# Altium schematic symbol library Power.SchLib: 8 symbols
Pins are listed as number, name and electrical type; pins without a type are passive.

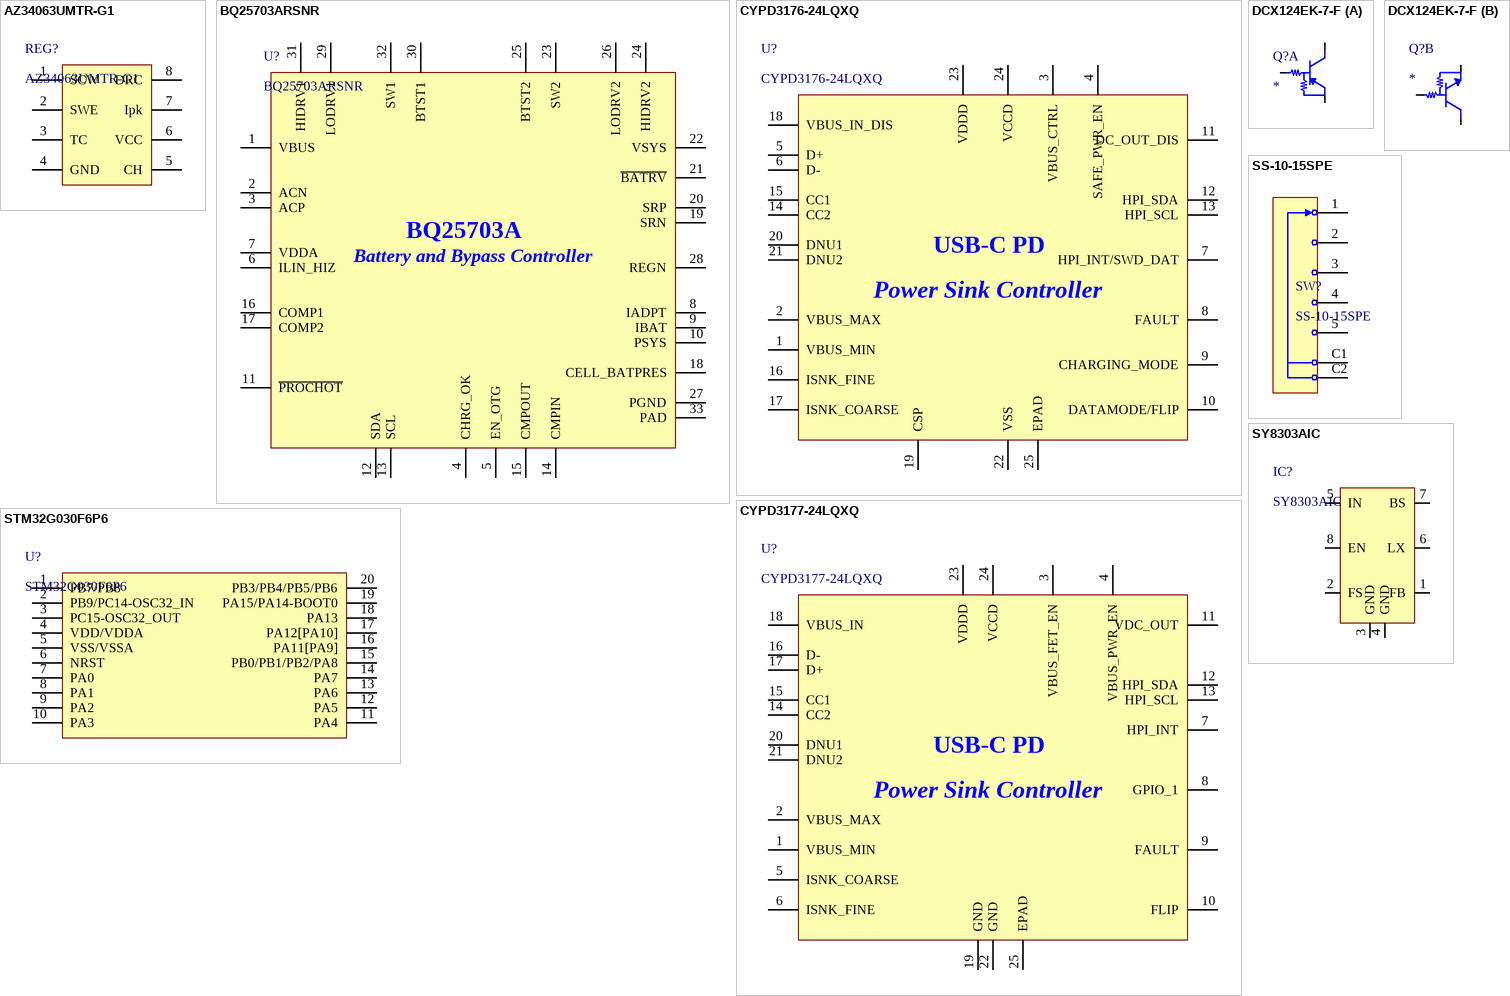
[diagram p0: symbols AZ34063UMTR-G1 to SY8303AIC]

## AZ34063UMTR-G1
designator REG?
USB Interface IC USB Type-C port controller (BCR) CYPD3177; Mfr.: Diodes Incorporated; Distributor_Link: https://www.mouser.tw/ProductDetail/Diodes-Incorporated/AZ34063UMTR-G1?qs=FKu9oBikfSmOGMlC%2Fa3O3g%3D%3D; Mfr. #: AZ34063UMTR-G1; Datasheet: https://www.diodes.com/assets/Datasheets/AZ34063U.pdf; Distributor #: 621-AZ34063UMTR-G1
footprint SOIC-8
pins: 1 SCW, 2 SWE, 3 TC, 4 GND, 5 CH, 6 VCC, 7 Ipk, 8 DRC

## BQ25703ARSNR
designator U?
Battery Management I2C 1-4 cell NVDC Buck-Boost battery charge controller with system power monitor & processor 32-QFN -40 to 85; Mfr.: Texas Instruments; Distributor_Link: https://www.mouser.tw/ProductDetail/Texas-Instruments/BQ25703ARSNR?qs=5aG0NVq1C4wREUY%2F32PenQ%3D%3D; Mfr. #: BQ25703ARSNR; Datasheet: https://www.ti.com/general/docs/suppproductinfo.tsp?distId=26&gotoUrl=https://www.ti.com/lit/gpn/bq25703a; Distributor #: 595-BQ25703ARSNR
footprint WQFN-32
pins: 1 VBUS, 2 ACN, 3 ACP, 4 CHRG_OK, 5 EN_OTG, 6 ILIN_HIZ, 7 VDDA, 8 IADPT, 9 IBAT, 10 PSYS, 11 ~{PROCHOT}, 12 SDA, 13 SCL, 14 CMPIN, 15 CMPOUT, 16 COMP1, 17 COMP2, 18 CELL_BATPRES, 19 SRN, 20 SRP, 21 ~{BATRV}, 22 VSYS, 23 SW2, 24 HIDRV2, 25 BTST2, 26 LODRV2, 27 PGND, 28 REGN, 29 LODRV1, 30 BTST1, 31 HIDRV1, 32 SW1, 33 PAD
text: BQ25703A; Battery and Bypass Controller

## CYPD3176-24LQXQ
designator U?
USB Interface IC USB Type-C port controller (BCR-PLUS) CYPD3176; Mfr. #: CYPD3176-24LQXQT; Mfr.: Infineon Technologies; Distributor_Link: https://www.mouser.tw/ProductDetail/Infineon-Technologies/CYPD3176-24LQXQT?qs=A6eO%252BMLsxmQEa4cjIEO1Eg%3D%3D; Datasheet: https://www.mouser.tw/datasheet/2/196/Infineon_CYPD3176_24LQXQ_DataSheet_v01_00_EN-3161635.pdf; Distributor #: 727-CYPD3176-24LQXQT
footprint QFN-24
pins: 1 VBUS_MIN, 2 VBUS_MAX, 3 VBUS_CTRL, 4 SAFE_PWR_EN, 5 D+, 6 D-, 7 HPI_INT/SWD_DAT, 8 FAULT, 9 CHARGING_MODE, 10 DATAMODE/FLIP, 11 DC_OUT_DIS, 12 HPI_SDA, 13 HPI_SCL, 14 CC2, 15 CC1, 16 ISNK_FINE, 17 ISNK_COARSE, 18 VBUS_IN_DIS, 19 CSP, 20 DNU1, 21 DNU2, 22 VSS, 23 VDDD, 24 VCCD, 25 EPAD
text: USB-C PD; Power Sink Controller

## CYPD3177-24LQXQ
designator U?
USB Interface IC USB Type-C port controller (BCR) CYPD3177; Mfr. #: CYPD3177-24LQXQT; Mfr.: Infineon Technologies; Distributor_Link: https://www.mouser.tw/ProductDetail/727-CYPD3177-24LQXQT; Datasheet: https://www.mouser.tw/datasheet/2/196/Infineon_EZ_PD_BCR_Datasheet_USB_Type_C_Port_Contr-3161917.pdf; Distributor #: 727-CYPD3177-24LQXQT
footprint QFN-24
pins: 1 VBUS_MIN, 2 VBUS_MAX, 3 VBUS_FET_EN, 4 VBUS_PWR_EN, 5 ISNK_COARSE, 6 ISNK_FINE, 7 HPI_INT, 8 GPIO_1, 9 FAULT, 10 FLIP, 11 VDC_OUT, 12 HPI_SDA, 13 HPI_SCL, 14 CC2, 15 CC1, 16 D-, 17 D+, 18 VBUS_IN, 19 GND, 20 DNU1, 21 DNU2, 22 GND, 23 VDDD, 24 VCCD, 25 EPAD
text: USB-C PD; Power Sink Controller

## DCX124EK-7-F
designator Q?
Bipolar Transistors - Pre-Biased PREBIASED TRANSISTOR SOT-26 300MW; Mfr. #: DCX124EK-7-F; Mfr.: Diodes Incorporated; Distributor_Link: https://www.mouser.tw/ProductDetail/Diodes-Incorporated/DCX124EK-7-F?qs=oVWkMaT70e5dmImuN6ueZA%3D%3D; Datasheet: https://www.diodes.com/assets/Datasheets/ds30350.pdf; Distributor #: 621-DCX124EK-7-F
footprint SOT-26
part A pins: 1 E1, 2 B1, 4 C1
part B pins: 3 C2, 5 B2, 6 E2

## SS-10-15SPE
designator SW?
SW-SP5T
pins: 1, 2, 3, 4, 5, C1, C2

## STM32G030F6P6
designator U?
ARM Microcontrollers - MCU Mainstream Value-Line Arm Cortex-M0+ MCU 32 Kbytes of Flash 8 Kbytes RAM, 64 MHz; Mfr.: STMicroelectronics; Distributor_Link: https://www.mouser.tw/ProductDetail/STMicroelectronics/STM32G030F6P6?qs=uwxL4vQweFOQRcVHghCbHA%3D%3D; Mfr. #: STM32G030F6P6; Datasheet: https://www.mouser.tw/datasheet/2/389/stm32g030c6-1826662.pdf; Distributor #: 511-STM32G030F6P6
footprint TSSOP-20
pins: 1 PB7/PB8, 2 PB9/PC14-OSC32_IN, 3 PC15-OSC32_OUT, 4 VDD/VDDA, 5 VSS/VSSA, 6 NRST, 7 PA0, 8 PA1, 9 PA2, 10 PA3, 11 PA4, 12 PA5, 13 PA6, 14 PA7, 15 PB0/PB1/PB2/PA8, 16 PA11[PA9], 17 PA12[PA10], 18 PA13, 19 PA15/PA14-BOOT0, 20 PB3/PB4/PB5/PB6

## SY8303AIC
designator IC?
Step-down type TSOT-23-8 DC-DC Converters ROHS; Mfr.: Silergy Corp; Distributor_Link: https://www.mouser.tw/ProductDetail/727-CYPD3177-24LQXQT; Mfr. #: SY8303AIC; Datasheet: https://datasheet.lcsc.com/lcsc/1811151653_Silergy-Corp-SY8303AIC_C97054.pdf; Distributor #: C97054
footprint TSOT-23-8
pins: 1 FB, 2 FS, 3 GND, 4 GND, 5 IN, 6 LX, 7 BS, 8 EN